# Altium schematic symbol library ICPOWER.SchLib: 89 symbols
Pins are listed as number, name and electrical type; pins without a type are passive.

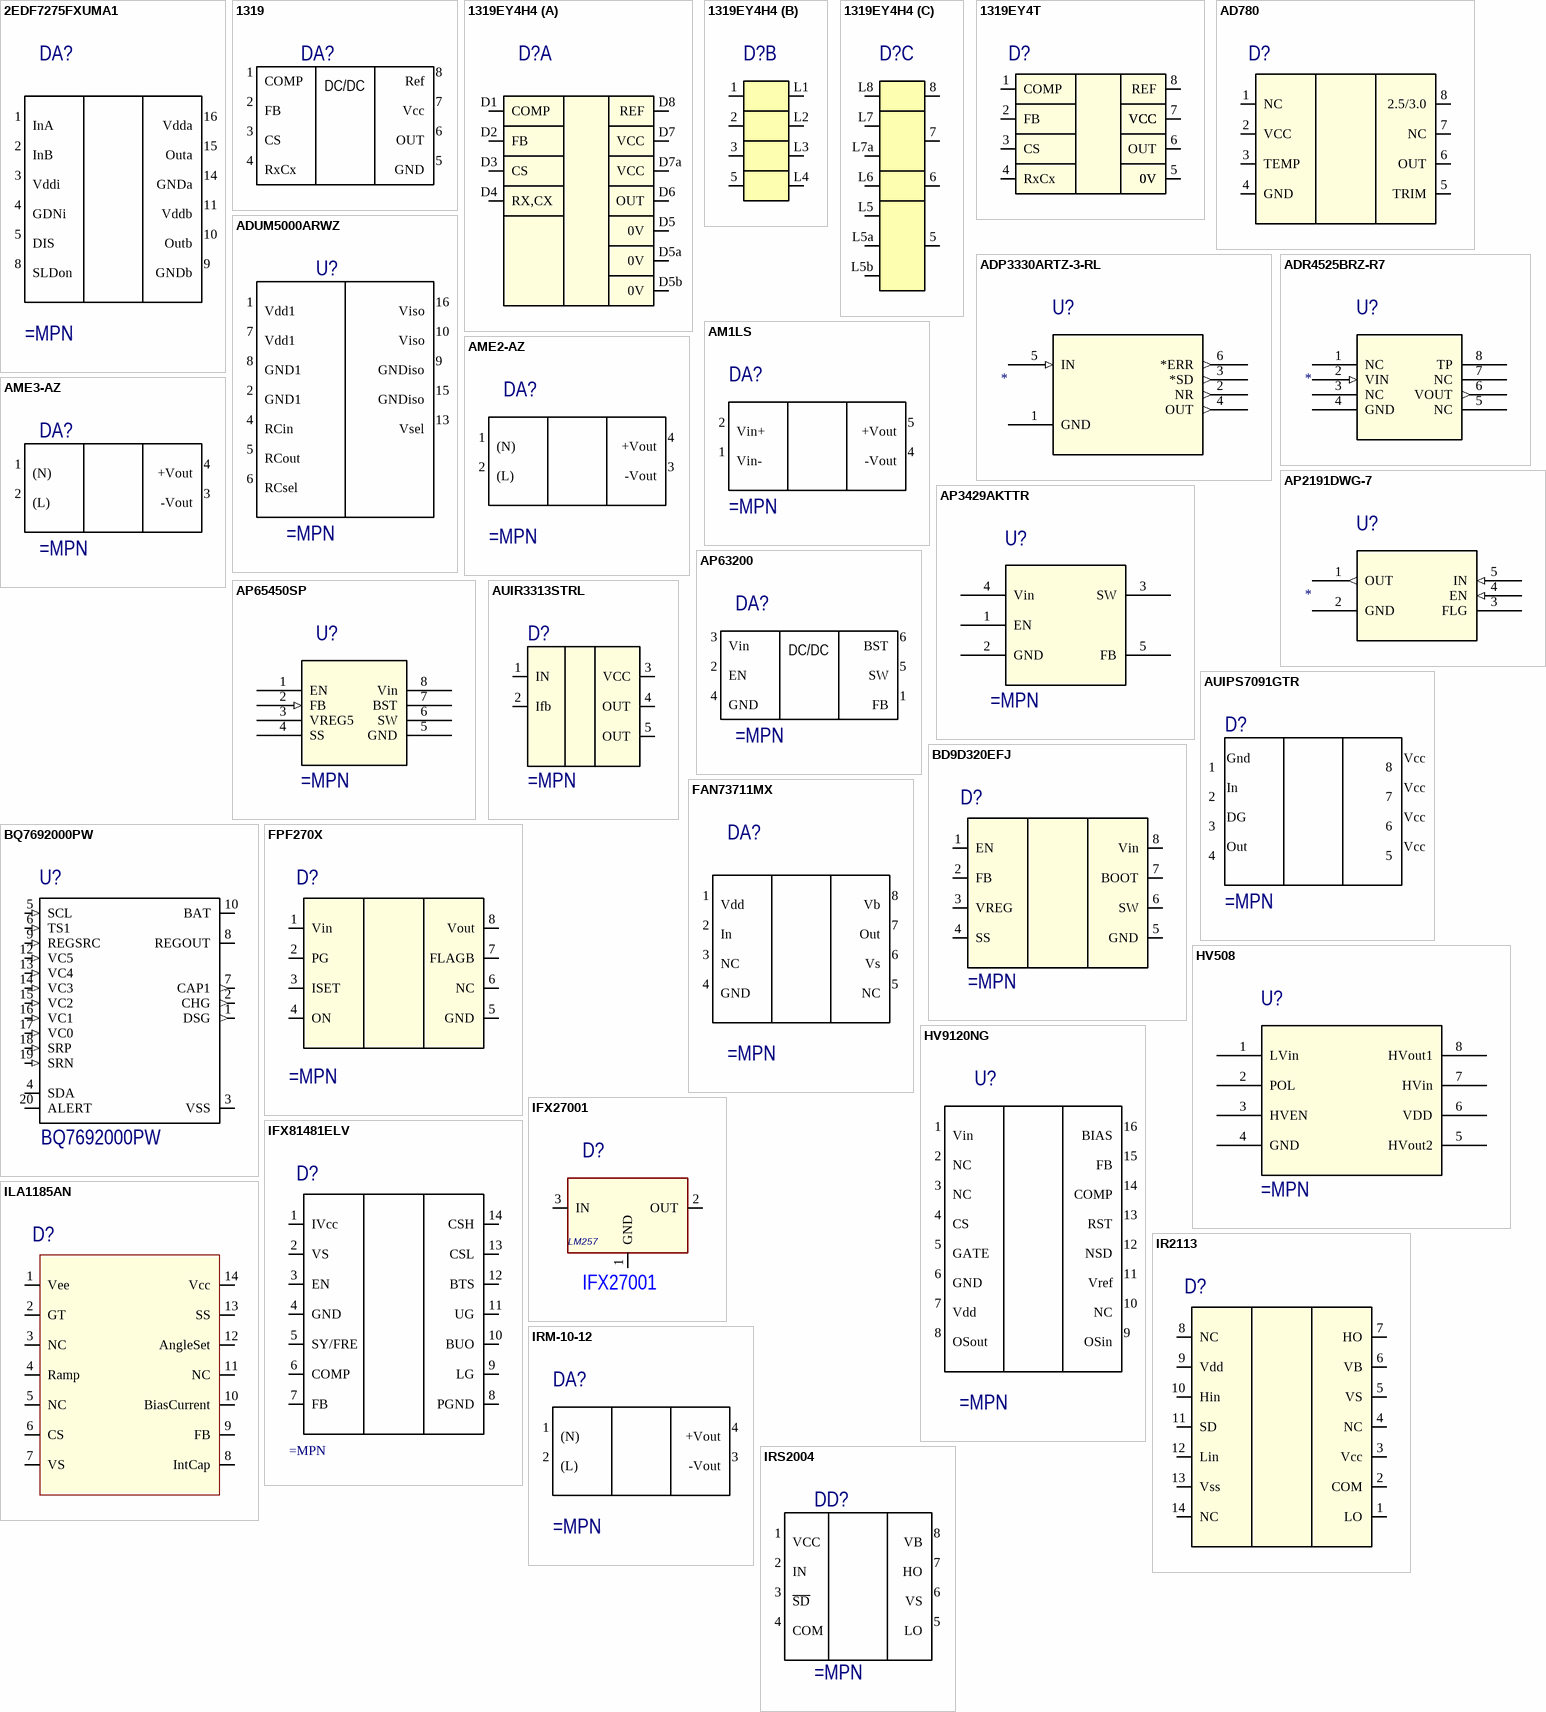
[diagram p0: symbols 2EDF7275FXUMA1 to IRS2004]

## 2EDF7275FXUMA1
designator DA?
Half-Bridge Gate Driver IC Non-Inverting
pins: 1 InA (power), 2 InB (power), 3 Vddi (power), 4 GDNi, 5 DIS, 8 SLDon, 9 GNDb, 10 Outb, 11 Vddb, 14 GNDa, 15 Outa, 16 Vdda

## 1319
designator DA?
pins: 1 COMP, 2 FB, 3 CS, 4 RxCx, 5 GND, 6 OUT, 7 Vcc, 8 Ref
text: DC/DC

## 1319EY4H4
designator D?
part A pins: D1 COMP, D2 FB, D3 CS, D4 RX,CX, D5 0V, D5a 0V, D5b 0V, D6 OUT, D7 VCC, D7a VCC, D8 REF
part B pins: 1 COMP, 2 FB, 3 CS, 5 RX,CX, L1 COMP, L2 FB, L3 CS, L4 RX,CX
part C pins: 5 0V, 6 OUT, 7 VCC, 8 REF, L5 0V, L5a 0V, L5b 0V, L6 OUT, L7 VCC, L7a OUT, L8 VCC

## 1319EY4T
designator D?
pins: 1 COMP, 2 FB, 3 CS, 4 RxCx, 5 0V, 5a 0V, 5b 0V, 6 OUT, 7 VCC, 7a VCC, 7a VCC, 8 REF

## AD780
designator D?
pins: 1 NC, 2 VCC, 3 TEMP, 4 GND, 5 TRIM, 6 OUT, 7 NC, 8 2.5/3.0

## ADP3330ARTZ-3-RL
designator U?
Imported
pins: 1 GND (power), 2 NR (out), 3 *SD (out), 4 OUT (out), 5 IN (in), 6 *ERR (out)

## ADR4525BRZ-R7
designator U?
Imported
pins: 1 NC, 2 VIN (in), 3 NC, 4 GND (power), 5 NC, 6 VOUT (out), 7 NC, 8 TP

## ADUM5000ARWZ
designator U?
isoPower integrated, isolated dc-to-dc converter, 3.3 V or 5 V output, Up to 500 mW
pins: 1 Vdd1, 2 GND1, 4 RCin, 5 RCout, 6 RCsel, 7 Vdd1, 8 GND1, 9 GNDiso, 10 Viso, 13 Vsel, 15 GNDiso, 16 Viso

## AM1LS
designator DA?
pins: 1 Vin- (power) "VCC", 2 Vin+ (power) "IN GND", 4 -Vout (power), 5 +Vout (power), 9 NC (power) hidden, 11 NC (power) hidden

## AME2-AZ
designator DA?
AC/DC, 2W, 24V/0,083A
pins: 1 (N) (power) "VCC", 2 (L) (power) "IN GND", 3 -Vout (power), 4 +Vout (power), 9 NC (power) hidden, 11 NC (power) hidden

## AME3-AZ
designator DA?
pins: 1 (N) (power) "VCC", 2 (L) (power) "IN GND", 3 -Vout (power), 4 +Vout (power), 9 NC (power) hidden, 11 NC (power) hidden

## AP2191DWG-7
designator U?
Imported
pins: 1 OUT (out), 2 GND (power), 3 FLG, 4 EN (in), 5 IN (in)

## AP3429AKTTR
designator U?
Imported
pins: 1 EN, 2 GND (power), 3 SW, 4 Vin, 5 FB

## AP63200
designator DA?
pins: 1 FB, 2 EN, 3 Vin, 4 GND, 5 SW, 6 BST
text: DC/DC

## AP65450SP
designator U?
Imported
pins: 1 EN, 2 FB (in), 3 VREG5, 4 SS (power), 5 GND, 6 SW, 7 BST, 8 Vin

## AUIPS7091GTR
designator D?
pins: DG 3, Gnd 1, In 2, Out 4, Vcc 8, Vcc 7, Vcc 6, Vcc 5

## AUIR3313STRL
designator D?
pins: 1 IN, 2 Ifb, 3 VCC, 4 OUT, 5 OUT

## BD9D320EFJ
designator D?
pins: 1 EN, 2 FB, 3 VREG, 4 SS, 5 GND, 6 SW, 7 BOOT, 8 Vin

## BQ7692000PW
designator U?
3 to 5-Series Cell Li-Ion and Li-Phosphate Battery Monitor _bq76940 Family_ 20-TSSOP -40 to 85
pins: 1 DSG (out), 2 CHG (out), 3 VSS (power), 4 SDA (io), 5 SCL (in), 6 TS1 (in), 7 CAP1 (out), 8 REGOUT (power), 9 REGSRC (in), 10 BAT (power), 12 VC5 (in), 13 VC4 (in), 14 VC3 (in), 15 VC2 (in), 16 VC1 (in), 17 VC0 (in), 18 SRP (in), 19 SRN (in), 20 ALERT (io)

## FAN73711MX
designator DA?
IC GATE DVR HIGH SIDE 8-SOP
pins: 1 Vdd (power), 2 In (power), 3 NC (power), 4 GND, 5 NC, 6 Vs, 7 Out, 8 Vb

## FPF270X
designator D?
pins: 1 Vin, 2 PG, 3 ISET, 4 ON, 5 GND, 6 NC, 7 FLAGB, 8 Vout

## HV508
designator U?
Imported
pins: 1 LVin, 2 POL, 3 HVEN, 4 GND (power), 5 HVout2, 6 VDD (power), 7 HVin (power), 8 HVout1

## HV9120NG
designator U?
Vin 10~450V, SMPS controllers
pins: 1 Vin, 2 NC, 3 NC, 4 CS, 5 GATE, 6 GND, 7 Vdd, 8 OSout, 9 OSin, 10 NC, 11 Vref, 12 NSD, 13 RST, 14 COMP, 15 FB, 16 BIAS

## IFX27001
designator D?, comment LM257
pins: 1 GND, 2 OUT, 3 IN
1 alternate drawing of the same symbol

## IFX81481ELV
designator D?
pins: 1 IVcc, 2 VS, 3 EN, 4 GND, 5 SY/FRE, 6 COMP, 7 FB, 8 PGND, 9 LG, 10 BUO, 11 UG, 12 BTS, 13 CSL, 14 CSH

## ILA1185AN
designator D?
pins: 1 Vee, 2 GT, 3 NC, 4 Ramp, 5 NC, 6 CS, 7 VS, 8 IntCap, 9 FB, 10 BiasCurrent, 11 NC, 12 AngleSet, 13 SS, 14 Vcc

## IR2113
designator D?
pins: 1 LO, 2 COM, 3 Vcc, 4 NC, 5 VS, 6 VB, 7 HO, 8 NC, 9 Vdd, 10 Hin, 11 SD, 12 Lin, 13 Vss, 14 NC

## IRM-10-12
designator DA?
AC/DC, 10W, 12V/0,85A
pins: 1 (N) (power) "VCC", 2 (L) (power) "IN GND", 3 -Vout (power), 4 +Vout (power)

## IRS2004
designator DD?
HALF-BRIDGE DRIVER; ComponentLink1Description: DataSheet; ComponentLink1URL: C:\DATASHEET\MOSFET_DRIVER\irs2004pbf.pdf
pins: 1 VCC "Low-side and logic fixed supply", 2 IN "Logic input for high-side and low-side gate driver outputs (HO and LO)", 3 ~{SD} "Logic input for shutdown", 4 COM "Low-side return", 5 LO "Low-side gate drive output", 6 VS "High-side floating supply return", 7 HO "High-side gate drive output", 8 VB "High-side floating supply"

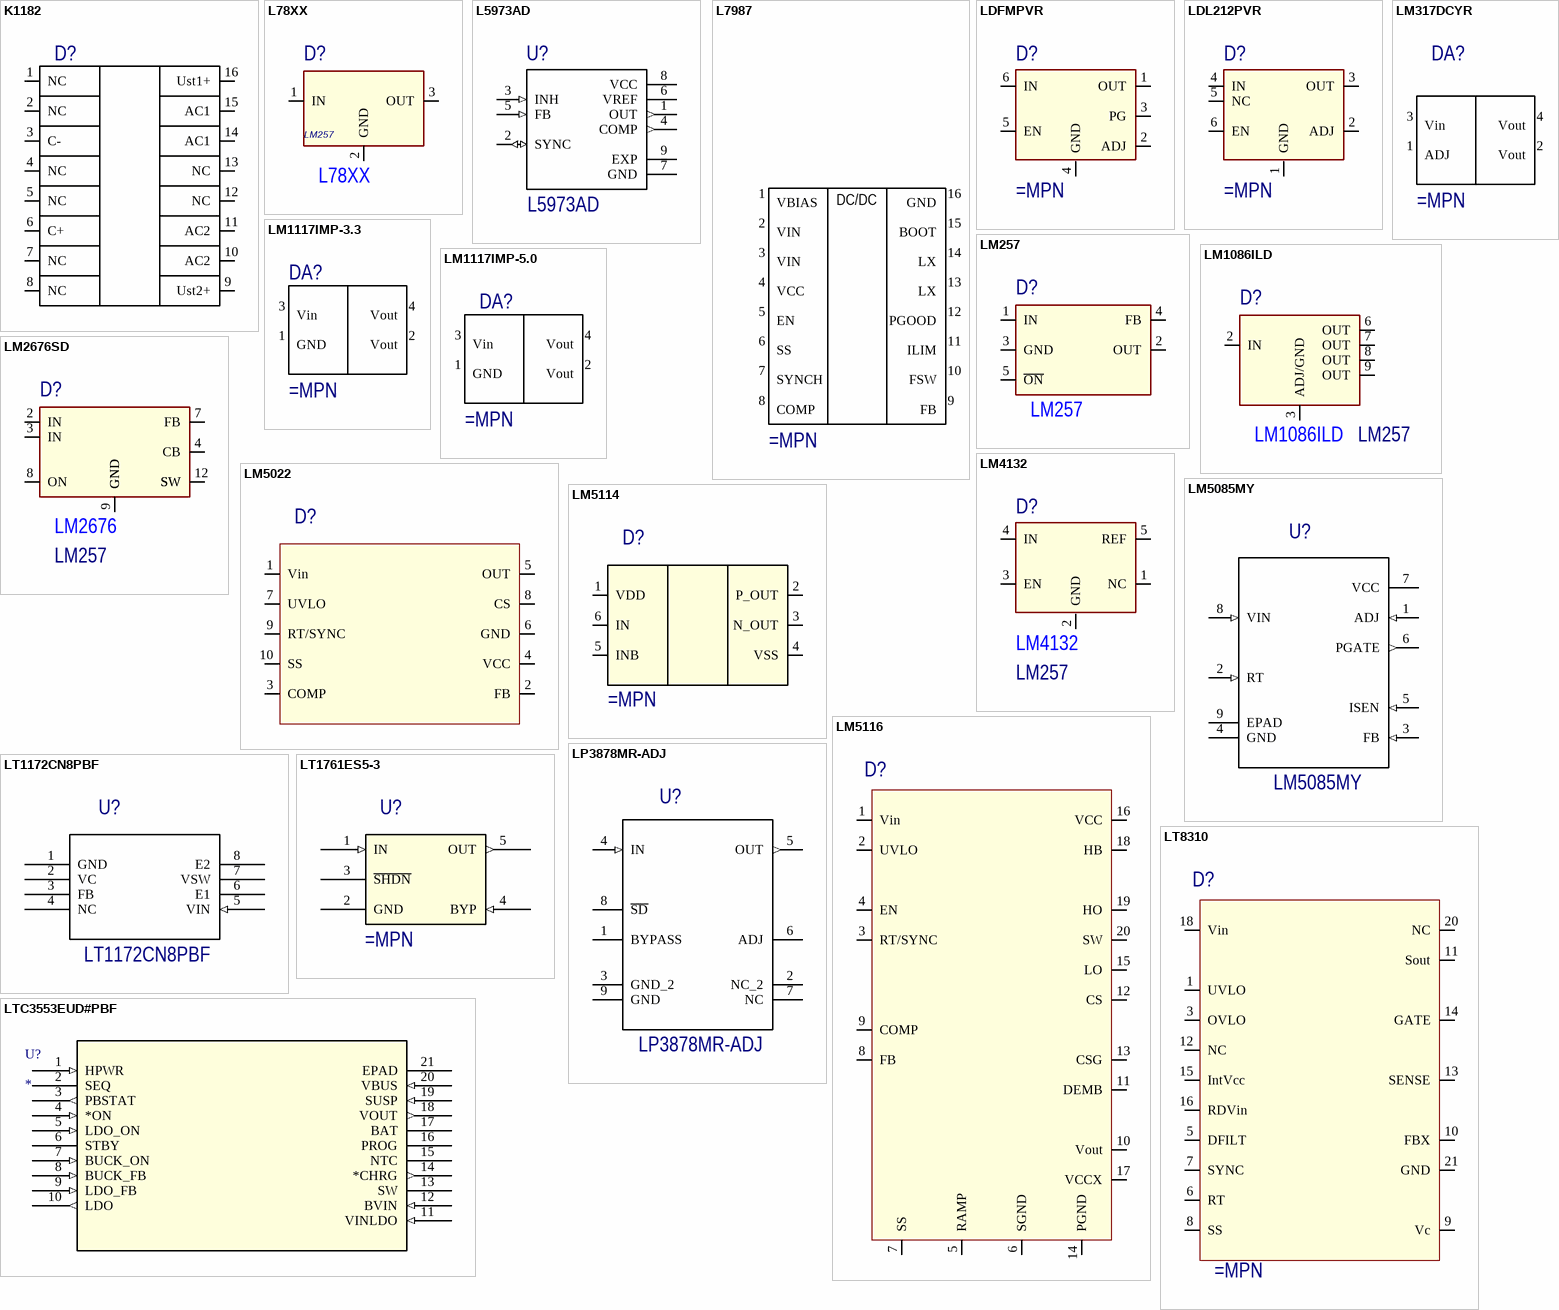
[diagram p1: symbols K1182 to LTC3553EUD#PBF]

## K1182
designator D?
pins: 1 NC, 2 NC, 3 C-, 4 NC, 5 NC, 6 C+, 7 NC, 8 NC, 9 Ust2+, 10 AC2, 11 AC2, 12 NC, 13 NC, 14 AC1, 15 AC1, 16 Ust1+

## L78XX
designator D?, comment LM257
pins: 1 IN, 2 GND, 3 OUT
1 alternate drawing of the same symbol

## L5973AD
designator U?
L5973AD Series 2 A Switch Step Down Monolithic Power Switching Regulator-HSOP-8
pins: 1 OUT (out), 2 SYNC (io), 3 INH (in), 4 COMP (out), 5 FB (in), 6 VREF (power), 7 GND (power), 8 VCC (power), 9 EXP (power)

## L7987
designator ?
pins: 1 VBIAS, 2 VIN, 3 VIN, 4 VCC, 5 EN, 6 SS, 7 SYNCH, 8 COMP, 9 FB, 10 FSW, 11 ILIM, 12 PGOOD, 13 LX, 14 LX, 15 BOOT, 16 GND
text: DC/DC

## LDFMPVR
designator D?
pins: 1 OUT, 2 ADJ, 3 PG, 4 GND, 5 EN, 6 IN, 7 GND
1 alternate drawing of the same symbol

## LDL212PVR
designator D?
pins: 1 GND, 2 ADJ, 3 OUT, 4 IN, 5 NC, 6 EN
1 alternate drawing of the same symbol

## LM257
designator D?  (value not drawn)
pins: 1 IN, 2 OUT, 3 GND, 4 FB, 5 ~{ON}
1 alternate drawing of the same symbol

## LM317DCYR
designator DA?
IC REG LIN POS ADJ 1.5A SOT223-4
pins: 1 ADJ (power), 2 Vout (power), 3 Vin (power), 4 Vout (power)

## LM1086ILD
designator D?, comment LM257
pins: 2 IN, 3 ADJ/GND, 6 OUT, 7 OUT, 8 OUT, 9 OUT
1 alternate drawing of the same symbol

## LM1117IMP-3.3
designator DA?
LM1117 800-mA Low-Dropout Linear Regulator
pins: 1 GND (power), 2 Vout (power), 3 Vin (power), 4 Vout (power)

## LM1117IMP-5.0
designator DA?
LM1117 800-mA Low-Dropout Linear Regulator
pins: 1 GND (power), 2 Vout (power), 3 Vin (power), 4 Vout (power)

## LM2676SD
designator D?, comment LM257
pins: 2 IN, 3 IN, 4 CB, 7 FB, 8 ON, 9 GND, 12 SW, 13 SW, 14 SW, 15 GND
1 alternate drawing of the same symbol
text: LM2676

## LM4132
designator D?, comment LM257
pins: 1 NC, 2 GND, 3 EN, 4 IN, 5 REF
1 alternate drawing of the same symbol

## LM5022
designator D?
pins: 1 Vin, 2 FB, 3 COMP, 4 VCC, 5 OUT, 6 GND, 7 UVLO, 8 CS, 9 RT/SYNC, 10 SS

## LM5085MY
designator U?
4.5-75V Wide Vin, Constant On-Time Non-Synchronous PFET Buck Controller 8-MSOP-PowerPAD -40 to 125
pins: 1 ADJ (in), 2 RT (in), 3 FB (in), 4 GND, 5 ISEN (in), 6 PGATE (out), 7 VCC (power), 8 VIN (in), 9 EPAD

## LM5114
designator D?
pins: 1 VDD, 2 P_OUT, 3 N_OUT, 4 VSS, 5 INB, 6 IN

## LM5116
designator D?
pins: 1 Vin, 2 UVLO, 3 RT/SYNC, 4 EN, 5 RAMP, 6 SGND, 7 SS, 8 FB, 9 COMP, 10 Vout, 11 DEMB, 12 CS, 13 CSG, 14 PGND, 15 LO, 16 VCC, 17 VCCX, 18 HB, 19 HO, 20 SW, 21 EX_PAD

## LP3878MR-ADJ
designator U?
Micropower 800mA Low Noise 'Ceramic Stable' Adjustable Voltage Regulator for 1V to 5V App. 8-SO PowerPAD
pins: 1 BYPASS, 2 NC_2, 3 GND_2, 4 IN (in), 5 OUT (out), 6 ADJ, 7 NC, 8 ~{SD}, 9 GND

## LT1172CN8PBF
designator U?
IC REG MULT CONFIG INV ADJ 8DIP
pins: 1 GND (power), 2 VC (power), 3 FB, 4 NC, 5 VIN (in), 6 E1, 7 VSW, 8 E2

## LT1761ES5-3
designator U?
Imported
pins: 1 IN (in), 2 GND (power), 3 ~{SHDN}, 4 BYP (in), 5 OUT (out)

## LT8310
designator D?
pins: 1 UVLO, 3 OVLO, 5 DFILT, 6 RT, 7 SYNC, 8 SS, 9 Vc, 10 FBX, 11 Sout, 12 NC, 13 SENSE, 14 GATE, 15 IntVcc, 16 RDVin, 18 Vin, 20 NC, 21 GND

## LTC3553EUD#PBF
designator U?
Imported
pins: 1 HPWR (in), 2 SEQ, 3 PBSTAT (out), 4 *ON (in), 5 LDO_ON (in), 6 STBY, 7 BUCK_ON (in), 8 BUCK_FB (in), 9 LDO_FB (in), 10 LDO (out), 11 VINLDO (in), 12 BVIN (in), 13 SW, 14 *CHRG (out), 15 NTC, 16 PROG, 17 BAT, 18 VOUT (out), 19 SUSP (in), 20 VBUS (in), 21 EPAD

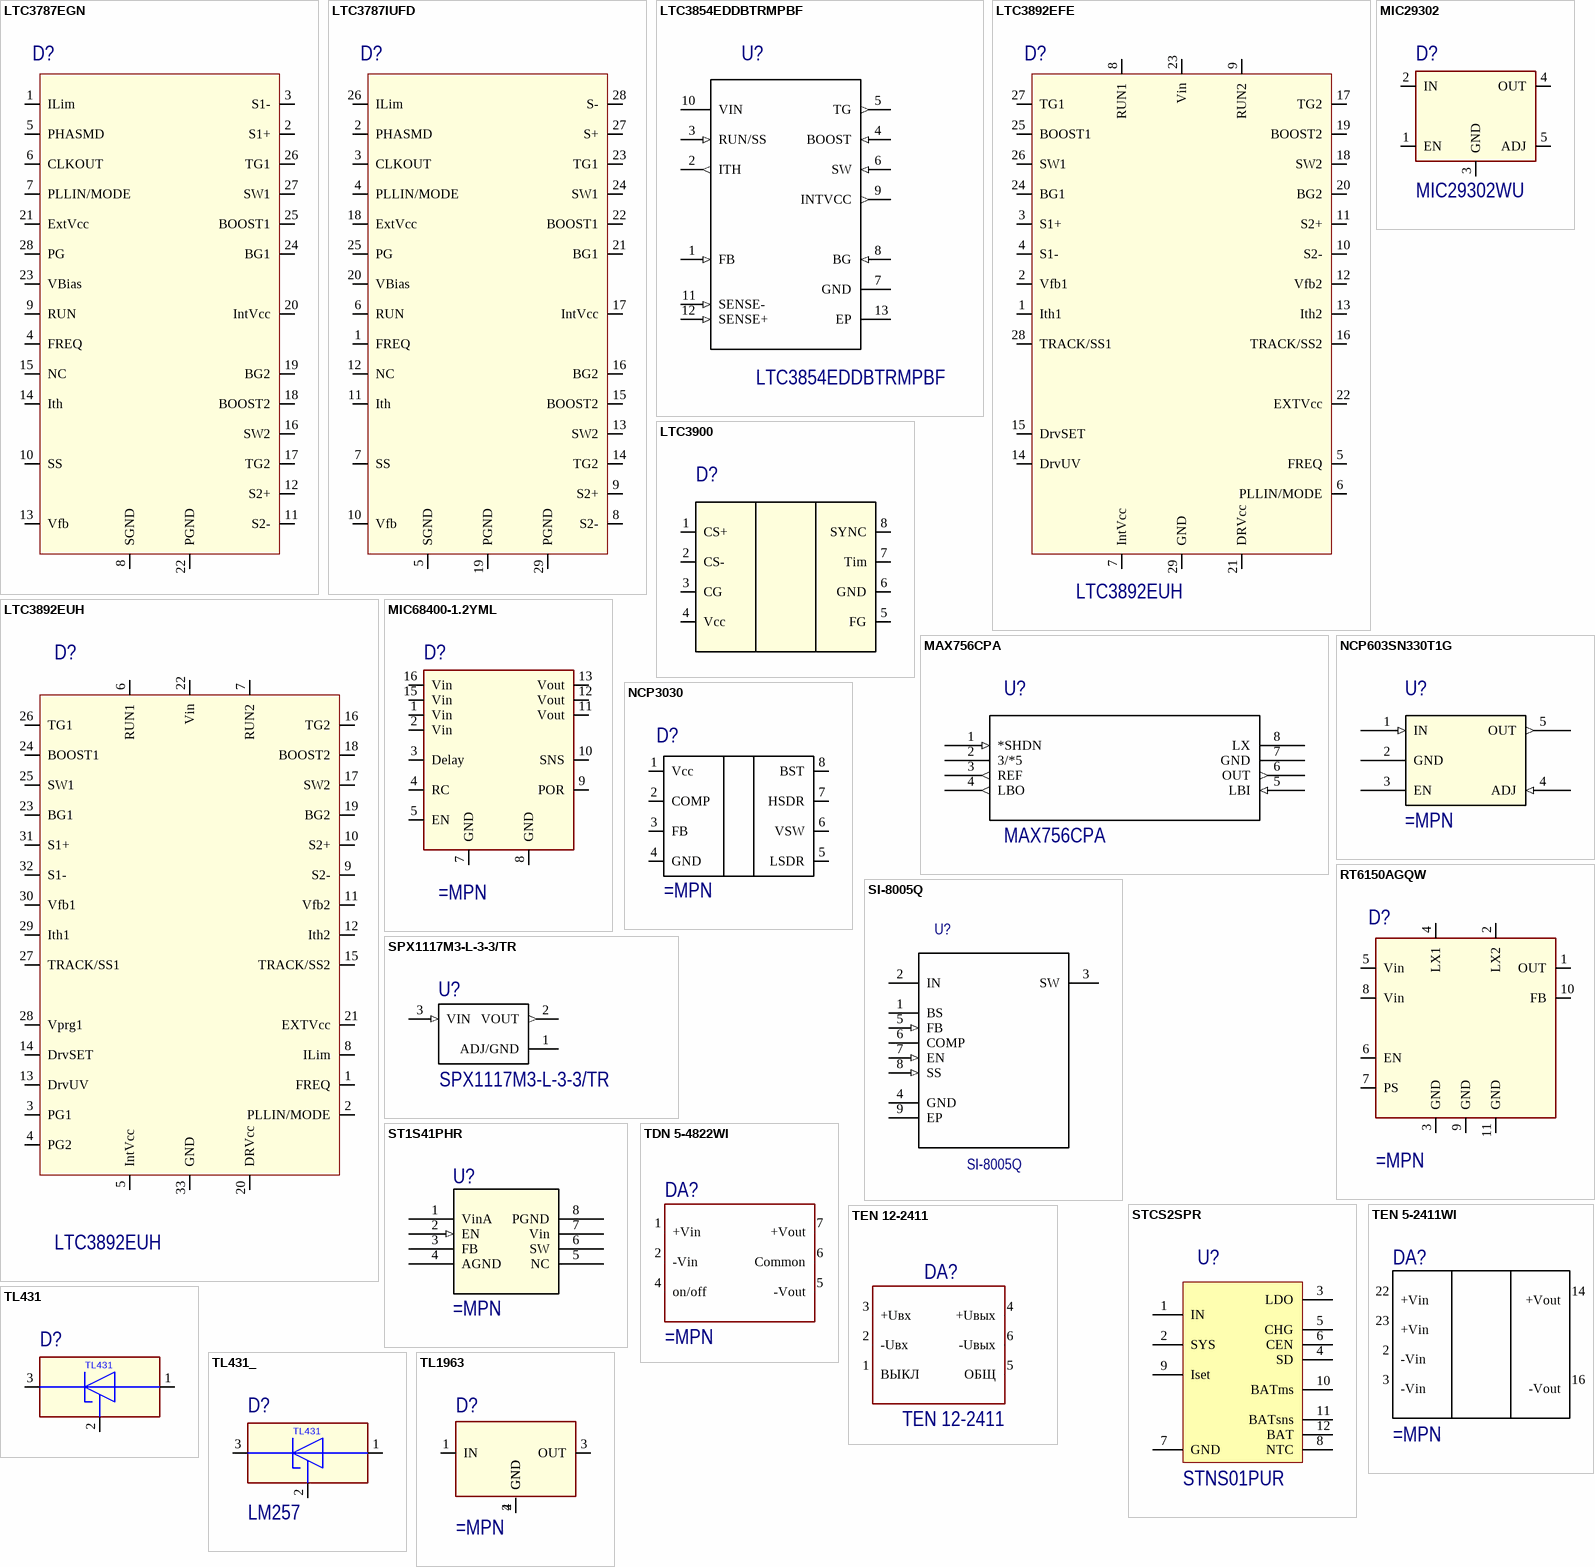
[diagram p2: symbols LTC3787EGN to TL1963]

## LTC3787EGN
designator D?
pins: 1 ILim, 2 S1+, 3 S1-, 4 FREQ, 5 PHASMD, 6 CLKOUT, 7 PLLIN/MODE, 8 SGND, 9 RUN, 10 SS, 11 S2-, 12 S2+, 13 Vfb, 14 Ith, 15 NC, 16 SW2, 17 TG2, 18 BOOST2, 19 BG2, 20 IntVcc, 21 ExtVcc, 22 PGND, 23 VBias, 24 BG1, 25 BOOST1, 26 TG1, 27 SW1, 28 PG

## LTC3787IUFD
designator D?
pins: 1 FREQ, 2 PHASMD, 3 CLKOUT, 4 PLLIN/MODE, 5 SGND, 6 RUN, 7 SS, 8 S2-, 9 S2+, 10 Vfb, 11 Ith, 12 NC, 13 SW2, 14 TG2, 15 BOOST2, 16 BG2, 17 IntVcc, 18 ExtVcc, 19 PGND, 20 VBias, 21 BG1, 22 BOOST1, 23 TG1, 24 SW1, 25 PG, 26 ILim, 27 S+, 28 S-, 29 PGND

## LTC3854EDDBTRMPBF
designator U?
DP-SWREG/Controller Small Footprint, Low Pin Count Synchronous Step-Down Controller with Wide Vin Range
pins: 1 FB (in), 2 ITH (out), 3 RUN/SS (in), 4 BOOST (in), 5 TG (out), 6 SW (in), 7 GND, 8 BG (in), 9 INTVCC (out), 10 VIN (power), 11 SENSE- (in), 12 SENSE+ (in), 13 EP

## LTC3892EFE
designator D?, comment LTC3892EUH
pins: 1 Ith1, 2 Vfb1, 3 S1+, 4 S1-, 5 FREQ, 6 PLLIN/MODE, 7 IntVcc, 8 RUN1, 9 RUN2, 10 S2-, 11 S2+, 12 Vfb2, 13 Ith2, 14 DrvUV, 15 DrvSET, 16 TRACK/SS2, 17 TG2, 18 SW2, 19 BOOST2, 20 BG2, 21 DRVcc, 22 EXTVcc, 23 Vin, 24 BG1, 25 BOOST1, 26 SW1, 27 TG1, 28 TRACK/SS1, 29 GND

## LTC3892EUH
designator D?
pins: 1 FREQ, 2 PLLIN/MODE, 3 PG1, 4 PG2, 5 IntVcc, 6 RUN1, 7 RUN2, 8 ILim, 9 S2-, 10 S2+, 11 Vfb2, 12 Ith2, 13 DrvUV, 14 DrvSET, 15 TRACK/SS2, 16 TG2, 17 SW2, 18 BOOST2, 19 BG2, 20 DRVcc, 21 EXTVcc, 22 Vin, 23 BG1, 24 BOOST1, 25 SW1, 26 TG1, 27 TRACK/SS1, 28 Vprg1, 29 Ith1, 30 Vfb1, 31 S1+, 32 S1-, 33 GND

## LTC3900
designator D?
pins: 1 CS+, 2 CS-, 3 CG, 4 Vcc, 5 FG, 6 GND, 7 Tim, 8 SYNC

## MAX756CPA
designator U?
IC REG BOOST PROG 8DIP
pins: 1 *SHDN (in), 2 3/*5, 3 REF (out), 4 LBO (out), 5 LBI (in), 6 OUT (out), 7 GND (power), 8 LX

## MIC29302
designator D?, comment MIC29302WU
pins: 1 EN, 2 IN, 3 GND, 4 OUT, 5 ADJ
1 alternate drawing of the same symbol

## MIC68400-1.2YML
designator D?
pins: 1 Vin, 2 Vin, 3 Delay, 4 RC, 5 EN, 7 GND, 8 GND, 9 POR, 10 SNS, 11 Vout, 12 Vout, 13 Vout, 15 Vin, 16 Vin
1 alternate drawing of the same symbol

## NCP603SN330T1G
designator U?
Imported
pins: 1 IN (in), 2 GND (power), 3 EN, 4 ADJ (in), 5 OUT (out)

## NCP3030
designator D?
pins: 1 Vcc, 2 COMP, 3 FB, 4 GND, 5 LSDR, 6 VSW, 7 HSDR, 8 BST

## RT6150AGQW
designator D?
pins: 1 OUT, 2 LX2, 3 GND, 4 LX1, 5 Vin, 6 EN, 7 PS, 8 Vin, 9 GND, 10 FB, 11 GND

## SI-8005Q
designator U?
Ic Reg Buck Adj 3.5a 8hsop
pins: 1 BS, 2 IN (power), 3 SW, 4 GND, 5 FB (in), 6 COMP, 7 EN (in), 8 SS (in), 9 EP

## SPX1117M3-L-3-3/TR
designator U?
SPX1117 Series 3.3 V Fixed Output 800 mA SMT LDO Regulator - SOT-223-3 T/R
pins: 1 ADJ/GND (power), 2 VOUT (out), 3 VIN (in)

## ST1S41PHR
designator U?
Imported
pins: 1 VinA, 2 EN (in), 3 FB, 4 AGND (power), 5 NC, 6 SW, 7 Vin, 8 PGND

## STCS2SPR
designator U?, comment STNS01PUR
1.5A Max Constant Current LED driver, 10-Pin PowerSO, Tape and Reel; ComponentLink1Description: Manufacturer URL; ComponentLink1URL: http://www.st.com; ComponentLink2Description: Datasheet; ComponentLink2URL: http://www.st.com/internet/com/TECHNICAL_RESOURCES/TECHNICAL_LITERATURE/DATASHEET/CD00172746.pdf
pins: 1 IN (power), 2 SYS, 3 LDO, 4 SD (oe), 5 CHG (oc), 6 CEN (oc), 7 GND (oe), 8 NTC (power), 9 Iset, 10 BATms (oc), 11 BATsns (power), 12 BAT (power)

## TDN 5-4822WI
designator DA?
DC DC CONVERTER +/-12V 5W
pins: 1 +Vin, 2 -Vin, 4 on/off, 5 -Vout, 6 Common, 7 +Vout

## TEN 5-2411WI
designator DA?
pins: 2 -Vin (power) "IN GND", 3 -Vin (power) "IN GND", 9 NC (power) hidden, 11 NC (power) hidden, 14 +Vout (power), 16 -Vout (power), 22 +Vin (power) "VCC", 23 +Vin (power) "VCC"

## TEN 12-2411
designator DA?
pins: 1 ВЫКЛ, 2 -Uвх, 3 +Uвх, 4 +Uвых, 5 ОБЩ, 6 -Uвых

## TL431
designator D?
pins: 1 AN, 2 REF, 3 CAT
1 alternate drawing of the same symbol

## TL431_
designator D?, comment LM257
pins: 1 AN, 2 REF, 3 CAT
1 alternate drawing of the same symbol
text: TL431

## TL1963
designator D?
pins: 1 IN, 2 GND, 3 OUT, 4 GND
1 alternate drawing of the same symbol

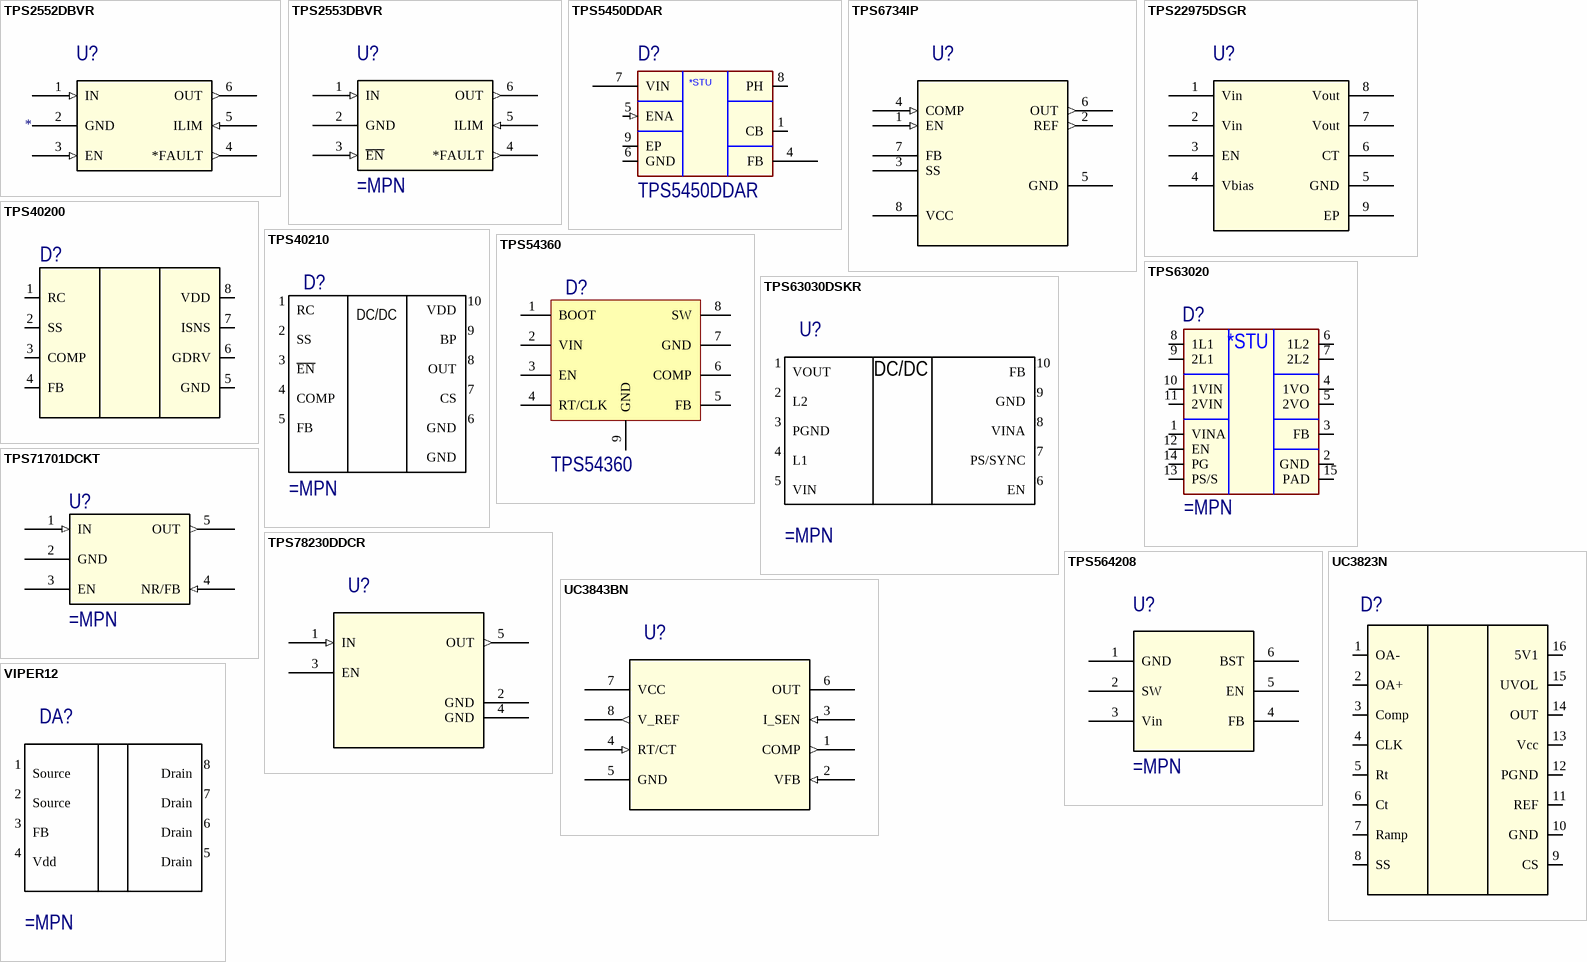
[diagram p3: symbols TPS2552DBVR to VIPER12]

## TPS2552DBVR
designator U?
Imported
pins: 1 IN (in), 2 GND (power), 3 EN (in), 4 *FAULT (out), 5 ILIM (in), 6 OUT (out)

## TPS2553DBVR
designator U?
Imported
pins: 1 IN (in), 2 GND (power), 3 ~{EN} (in), 4 *FAULT (out), 5 ILIM (in), 6 OUT (out)

## TPS5450DDAR
designator D?
pins: 1 CB, 4 FB, 5 ENA (in), 6 GND, 7 VIN, 8 PH, 9 EP
text: *STU

## TPS6734IP
designator U?  (value not drawn)
Imported
pins: 1 EN (in), 2 REF (out), 3 SS, 4 COMP (in), 5 GND (power), 6 OUT (out), 7 FB, 8 VCC (power)

## TPS22975DSGR
designator U?  (value not drawn)
Imported
pins: 1 Vin, 2 Vin, 3 EN, 4 Vbias, 5 GND, 6 CT, 7 Vout, 8 Vout, 9 EP

## TPS40200
designator D?
pins: 1 RC, 2 SS, 3 COMP, 4 FB, 5 GND, 6 GDRV, 7 ISNS, 8 VDD

## TPS40210
designator D?
pins: 1 RC, 2 SS, 3 ~{EN}, 4 COMP, 5 FB, 6 GND, 7 CS, 8 OUT, 9 BP, 10 VDD, EP GND
text: DC/DC

## TPS54360
designator D?
pins: 1 BOOT, 2 VIN, 3 EN, 4 RT/CLK, 5 FB, 6 COMP, 7 GND, 8 SW, 9 GND

## TPS63020
designator D?
pins: 1 VINA, 2 GND, 3 FB, 4 1VO, 5 2VO, 6 1L2, 7 2L2, 8 1L1, 9 2L1, 10 1VIN, 11 2VIN, 12 EN, 13 PS/S, 14 PG (oc), 15 PAD
text: *STU

## TPS63030DSKR
designator U?
pins: 1 VOUT, 2 L2, 3 PGND, 4 L1, 5 VIN, 6 EN, 7 PS/SYNC, 8 VINA, 9 GND, 10 FB
text: DC/DC

## TPS71701DCKT
designator U?
Imported
pins: 1 IN (in), 2 GND (power), 3 EN, 4 NR/FB (in), 5 OUT (out)

## TPS78230DDCR
designator U?  (value not drawn)
Imported
pins: 1 IN (in), 2 GND (power), 3 EN, 4 GND (power), 5 OUT (out)

## TPS564208
designator U?
Imported
pins: 1 GND, 2 SW (power), 3 Vin, 4 FB, 5 EN, 6 BST

## UC3823N
designator D?
pins: 1 OA-, 2 OA+, 3 Comp, 4 CLK, 5 Rt, 6 Ct, 7 Ramp, 8 SS, 9 CS, 10 GND, 11 REF, 12 PGND, 13 Vcc, 14 OUT, 15 UVOL, 16 5V1

## UC3843BN
designator U?  (value not drawn)
Imported
pins: 1 COMP (out), 2 VFB (in), 3 I_SEN (in), 4 RT/CT (in), 5 GND (power), 6 OUT (hiz), 7 VCC (power), 8 V_REF (out)

## VIPER12
designator DA?
Low power offline switched-mode power supply primary switcher
pins: 1 Source (power), 2 Source (power), 3 FB (power), 4 Vdd (power), 5 Drain (power), 6 Drain (power), 7 Drain (power), 8 Drain (power)